# EAGLE library part SIM300DZ (library sim300)
SIM300DZ GSM Module
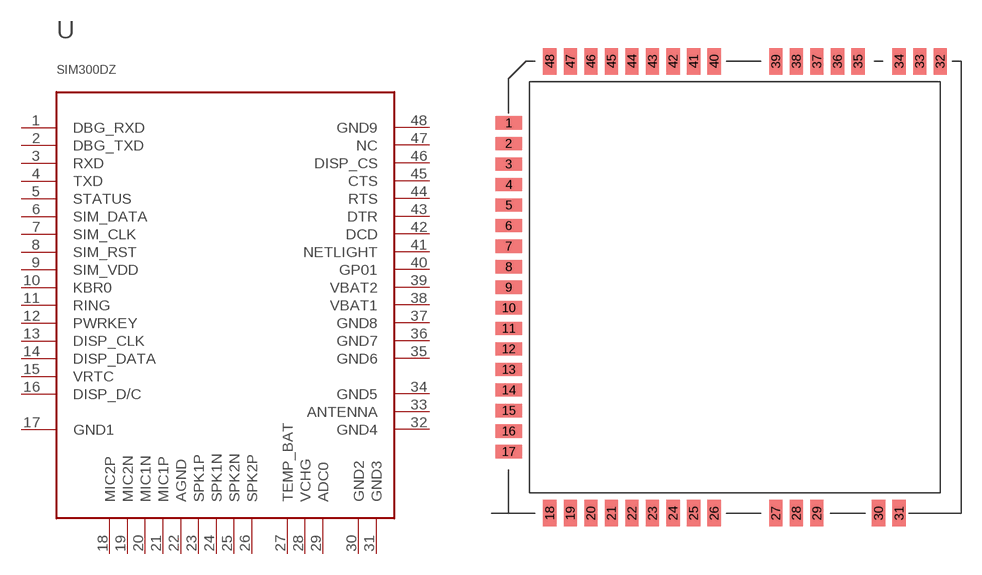
[diagram p0: symbol with the pads of SIM300DZ; footprint SIM300DZ]

Designator prefix -

## SIM300DZ (PCB: MODULE)  [SIM300DZ]
1  DBG_RXD
2  DBG_TXD
3  RXD
4  TXD
5  STATUS
6  SIM_DATA
7  SIM_CLK
8  SIM_RST
9  SIM_VDD
10  KBR0
11  RING
12  PWRKEY
13  DISP_CLK
14  DISP_DATA
15  VRTC
16  DISP_D/C
17  GND1
18  MIC2P
19  MIC2N
20  MIC1N
21  MIC1P
22  AGND
23  SPK1P
24  SPK1N
25  SPK2N
26  SPK2P
27  TEMP_BAT
28  VCHG
29  ADC0
30  GND2
31  GND3
32  GND4
33  ANTENNA
34  GND5
35  GND6
36  GND7
37  GND8
38  VBAT1
39  VBAT2
40  GP01
41  NETLIGHT
42  DCD
43  DTR
44  RTS
45  CTS
46  DISP_CS
47  NC
48  GND9

## Footprint SIM300DZ (pad centres in mm)
smd 1.93 x 0.965: 1 0,28.5; 2 0,27; 3 0,25.5; 4 0,24; 5 0,22.5; 6 0,21; 7 0,19.5; 8 0,18; 9 0,16.5; 10 0,15; 11 0,13.5; 12 0,12; 13 0,10.5; 14 0,9; 15 0,7.5; 16 0,6; 17 0,4.5
smd 0.965 x 1.93: 18 3,0; 19 4.5,0; 20 6,0; 21 7.5,0; 22 9,0; 23 10.5,0; 24 12,0; 25 13.5,0; 26 15,0; 27 19.5,0; 28 21,0; 29 22.5,0; 30 27,0; 31 28.5,0; 32 31.5,33; 33 30,33.008; 34 28.5,33; 35 25.5,33; 36 24,33; 37 22.5,33; 38 21,33; 39 19.5,33; 40 15,33; 41 13.5,33; 42 12,33; 43 10.5,33; 44 9,33; 45 7.5,33; 46 6,33; 47 4.5,33; 48 3,33